# EAGLE library part TPS54560DDAR (library FSAE Electric (Alexander Ray's conflicted copy 2016-04-02))
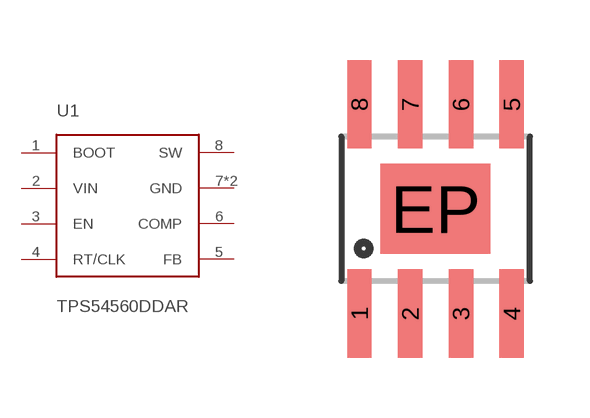
[diagram p41: symbol with the pads of SO-8-PO; footprint SO-8-PO]

Designator prefix U1

## TPS54560DDAR (PARTNO: TPS54560DDAR)  [SO-8-PO]
1  BOOT
2  VIN
3  EN
4  RT/CLK
5  FB
6  COMP
7  GND
8  SW
EP  GND

## Footprint SO-8-PO (pad centres in mm)
smd 0.61 x 2.21: 1 -1.905,-2.616; 2 -0.635,-2.616; 3 0.635,-2.616; 4 1.905,-2.616; 5 1.905,2.616; 6 0.635,2.616; 7 -0.635,2.616; 8 -1.905,2.616
smd 2.75 x 2.25: EP 0,0